# Altium schematic symbol library CMR_PCB_Components.SchLib: 23 symbols
Pins are listed as number, name and electrical type; pins without a type are passive.

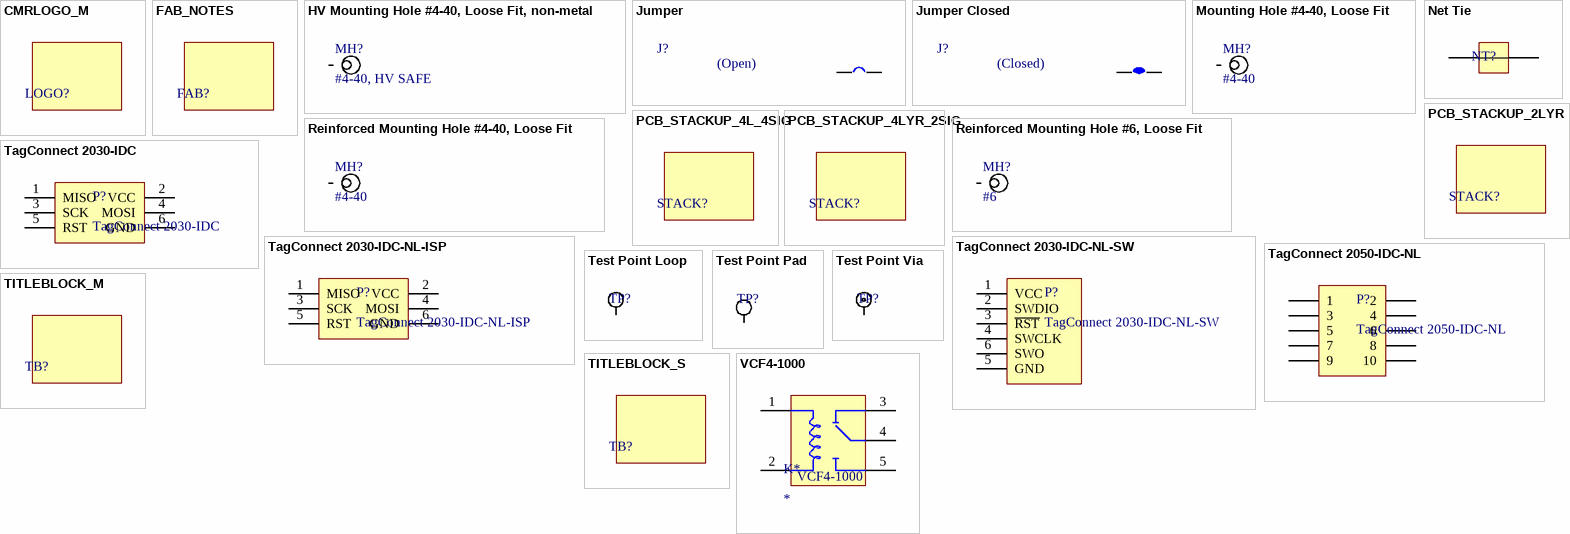
[diagram p0: symbols CMRLOGO_M to VCF4-1000]

## CMRLOGO_M
designator LOGO?, comment CMR_LOGO_MED  (value not drawn)
CMR LOGO, MEDIUM
footprint CMR LOGO (CMR Logo)

## FAB_NOTES
designator FAB?, comment FAB NOTES  (value not drawn)
footprint FAB NOTES (Fabrication notes)

## HV Mounting Hole #4-40, Loose Fit, non-metal
designator MH?, comment #4-40, HV SAFE
HV Mounting Hole for ANSI #4-40 w/ Flat Washer, Loose Fit, non-metal; Datasheet: http://blogs.mentor.com/tom-hausherr/blog/tag/pcb-mounting-holes/
footprint Non-Metallic Mounting Hole #4-40 (Mounting Hole for ANSI #4-40 w/ Flat Washer, Loose Fit, no annular ring or plating)
pins: 0

## Jumper
designator J?, comment (Open)
Jumper
footprint Solder Jumper
pins: 1, 2

## Jumper Closed
designator J?, comment (Closed)
Jumper
footprint Solder Jumper - Closed
pins: 1, 2

## Misc PCB Components
designator *  (value not drawn)
footprint TITLE BLOCK SMALL (Small title block)
footprint CMR LOGO
footprint FAB NOTES (Fabrication notes)
footprint TITLE BLOCK MEDIUM (Medium title block)
footprint STACKUP 4-LAYER 4-SIG (Four Layer PCB Stackup Note, 4 Signal Layers)
footprint STACKUP 2-LAYER (Two Layer PCB Stackup Note)
footprint STACKUP 4-LAYER 2-SIG (Four Layer PCB Stackup Note, 2 Signal Layer)

## Mounting Hole #4-40, Loose Fit
designator MH?, comment #4-40
Mounting Hole for ANSI #4-40 w/ Flat Washer, Loose Fit; Datasheet: http://blogs.mentor.com/tom-hausherr/blog/tag/pcb-mounting-holes/
footprint Mounting Hole #4-40 (Mounting Hole for ANSI #4-40 w/ Flat Washer, Loose Fit)
pins: 0

## Net Tie
designator NT?  (value not drawn)  (net tie, no BOM)
Use to tie together nets
footprint Net_Tie_80mil
footprint Net_Tie_100mil
footprint Net_Tie_120mil
footprint Net_Tie_160mil
footprint Net_Tie_20MIL
pins: 1, 2

## PCB_STACKUP_2LYR
designator STACK?, comment STACKUP_2LYR  (value not drawn)
DEFAULT STACKUP, 2 LAYER
footprint STACKUP 2-LAYER (Two Layer PCB Stackup Note)

## PCB_STACKUP_4L_4SIG
designator STACK?, comment STACKUP_4LYR_4SIG  (value not drawn)
DEFAULT STACKUP, 4 LAYER, 4 SIGNAL
footprint STACKUP 4-LAYER 4-SIG (Four Layer PCB Stackup Note, 4 Signal Layers)

## PCB_STACKUP_4LYR_2SIG
designator STACK?, comment STACKUP_4LYR_2SIG  (value not drawn)
DEFAULT STACKUP, 4 LAYER, 2 SIGNAL
footprint STACKUP 4-LAYER 2-SIG (Four Layer PCB Stackup Note, 2 Signal Layer)

## Reinforced Mounting Hole #4-40, Loose Fit
designator MH?, comment #4-40
Mounting Hole for ANSI #4-40 w/ Flat Washer, Loose Fit; Datasheet: http://blogs.mentor.com/tom-hausherr/blog/tag/pcb-mounting-holes/
footprint Reinforced Mounting Hole #4-40 (Mounting Hole for ANSI #4-40 w/ Flat Washer, Loose Fit, via in ring)
pins: 0

## Reinforced Mounting Hole #6, Loose Fit
designator MH?, comment #6
Mounting Hole for ANSI #6 w/ Flat Washer, Loose Fit; Datasheet: http://blogs.mentor.com/tom-hausherr/blog/tag/pcb-mounting-holes/
footprint Reinforced Mounting Hole #6 (Mounting Hole for ANSI #6 w/ Flat Washer, Loose Fit, via in ring)
pins: 0

## TagConnect 2030-IDC
designator P?
TagConnect 6-pin programming header; Manufacturer: Tag-Connect; Part Number: TC2030-IDC; Datasheet: http://www.tag-connect.com/Materials/TC2030-MCP%20PCB%20Footprint.pdf
footprint TagConnect 2030-IDC (Tag-Connect 6-Pin with Legs (PN# TC2030-IDC-NL))
pins: 1 MISO, 2 VCC, 3 SCK, 4 MOSI, 5 RST "VCC", 6 GND

## TagConnect 2030-IDC-NL-ISP
designator P?
TagConnect 6-pin ISP, legs; Manufacturer: Tag-Connect; Part Number: TC2030-IDC-NL; Datasheet: http://www.tag-connect.com/Materials/TC2030-MCP%20PCB%20Footprint.pdf
footprint TagConnect 2030-IDC-NL (Tag-Connect 6-Pin with No Legs (PN# TC2030-IDC-NL))
pins: 1 MISO, 2 VCC, 3 SCK, 4 MOSI, 5 RST "VCC", 6 GND

## TagConnect 2030-IDC-NL-SW
designator P?
TagConnect 6-pin SW, legs, for 20-pin Segger J-link; Manufacturer: Tag-Connect; Part Number: TC2030-IDC-NL; Datasheet: http://www.tag-connect.com/Materials/TC2030-MCP%20PCB%20Footprint.pdf
footprint TagConnect 2030-IDC-NL (Tag-Connect 6-Pin with No Legs (PN# TC2030-IDC-NL))
pins: 1 VCC "MISO", 2 SWDIO "VCC", 3 ~{RST} "SCK", 4 SWCLK "MOSI", 5 GND "VCC", 6 SWO "GND"

## TagConnect 2050-IDC-NL
designator P?
TagConnect 6-pin ISP, legs; Manufacturer: Tag-Connect; Part Number: TC2030-IDC-NL; Datasheet: http://www.tag-connect.com/Materials/TC2030-MCP%20PCB%20Footprint.pdf
footprint TagConnect 2050-IDC-NL (Tag-Connect 10-Pin with No Legs (PN# TC2050-IDC-NL))
pins: 1 "MISO", 2 "VCC", 3 "SCK", 4 "MOSI", 5 "VCC", 6 "GND", 7 "VCC", 8 "GND", 9 "VCC", 10 "GND"

## Test Point Loop
designator TP?  (value not drawn)
Keyston Electronics 5001 Test Point Loop; Manufacturer P/N: 5001; Manufacturer: Keystone Electronics; Color: Black; Supplier 1: Digi-Key; Supplier Part Number 1: 36-5001-ND
footprint Test Point Loop - Black (, black)
footprint Test Point Loop - Red (, red)
pins: 1

## Test Point Pad
designator TP?  (value not drawn)
Test point, Pad, 28 mil
footprint Test Point Pad (Test Point, Pad, 28mil)
pins: 1

## Test Point Via
designator TP?  (value not drawn)
Test point, via
footprint Test Point
pins: 1

## TITLEBLOCK_M
designator TB?, comment TITLEBLOCK_MED  (value not drawn)
TITLEBLOCK, MEDIUM
footprint TITLE BLOCK MEDIUM (Medium title block)

## TITLEBLOCK_S
designator TB?, comment TITLEBLOCK_SML  (value not drawn)
TITLEBLOCK, SMALL
footprint TITLE BLOCK SMALL (Small title block)

## VCF4-1000
designator K*
SOCKET RELAY PC MNT FOR VF4 SER; Supplier Part Number: PB232-ND; Supplier: DigiKey
footprint VCF4-1000
pins: 1 Coil A, 2 Coil B, 3 Normally Closed, 4 Common, 5 Normally Open